# Altium integrated library airu-board.IntLib: 156 symbols (part 1 of 3)
Pins are listed as number, name and electrical type; pins without a type are passive.

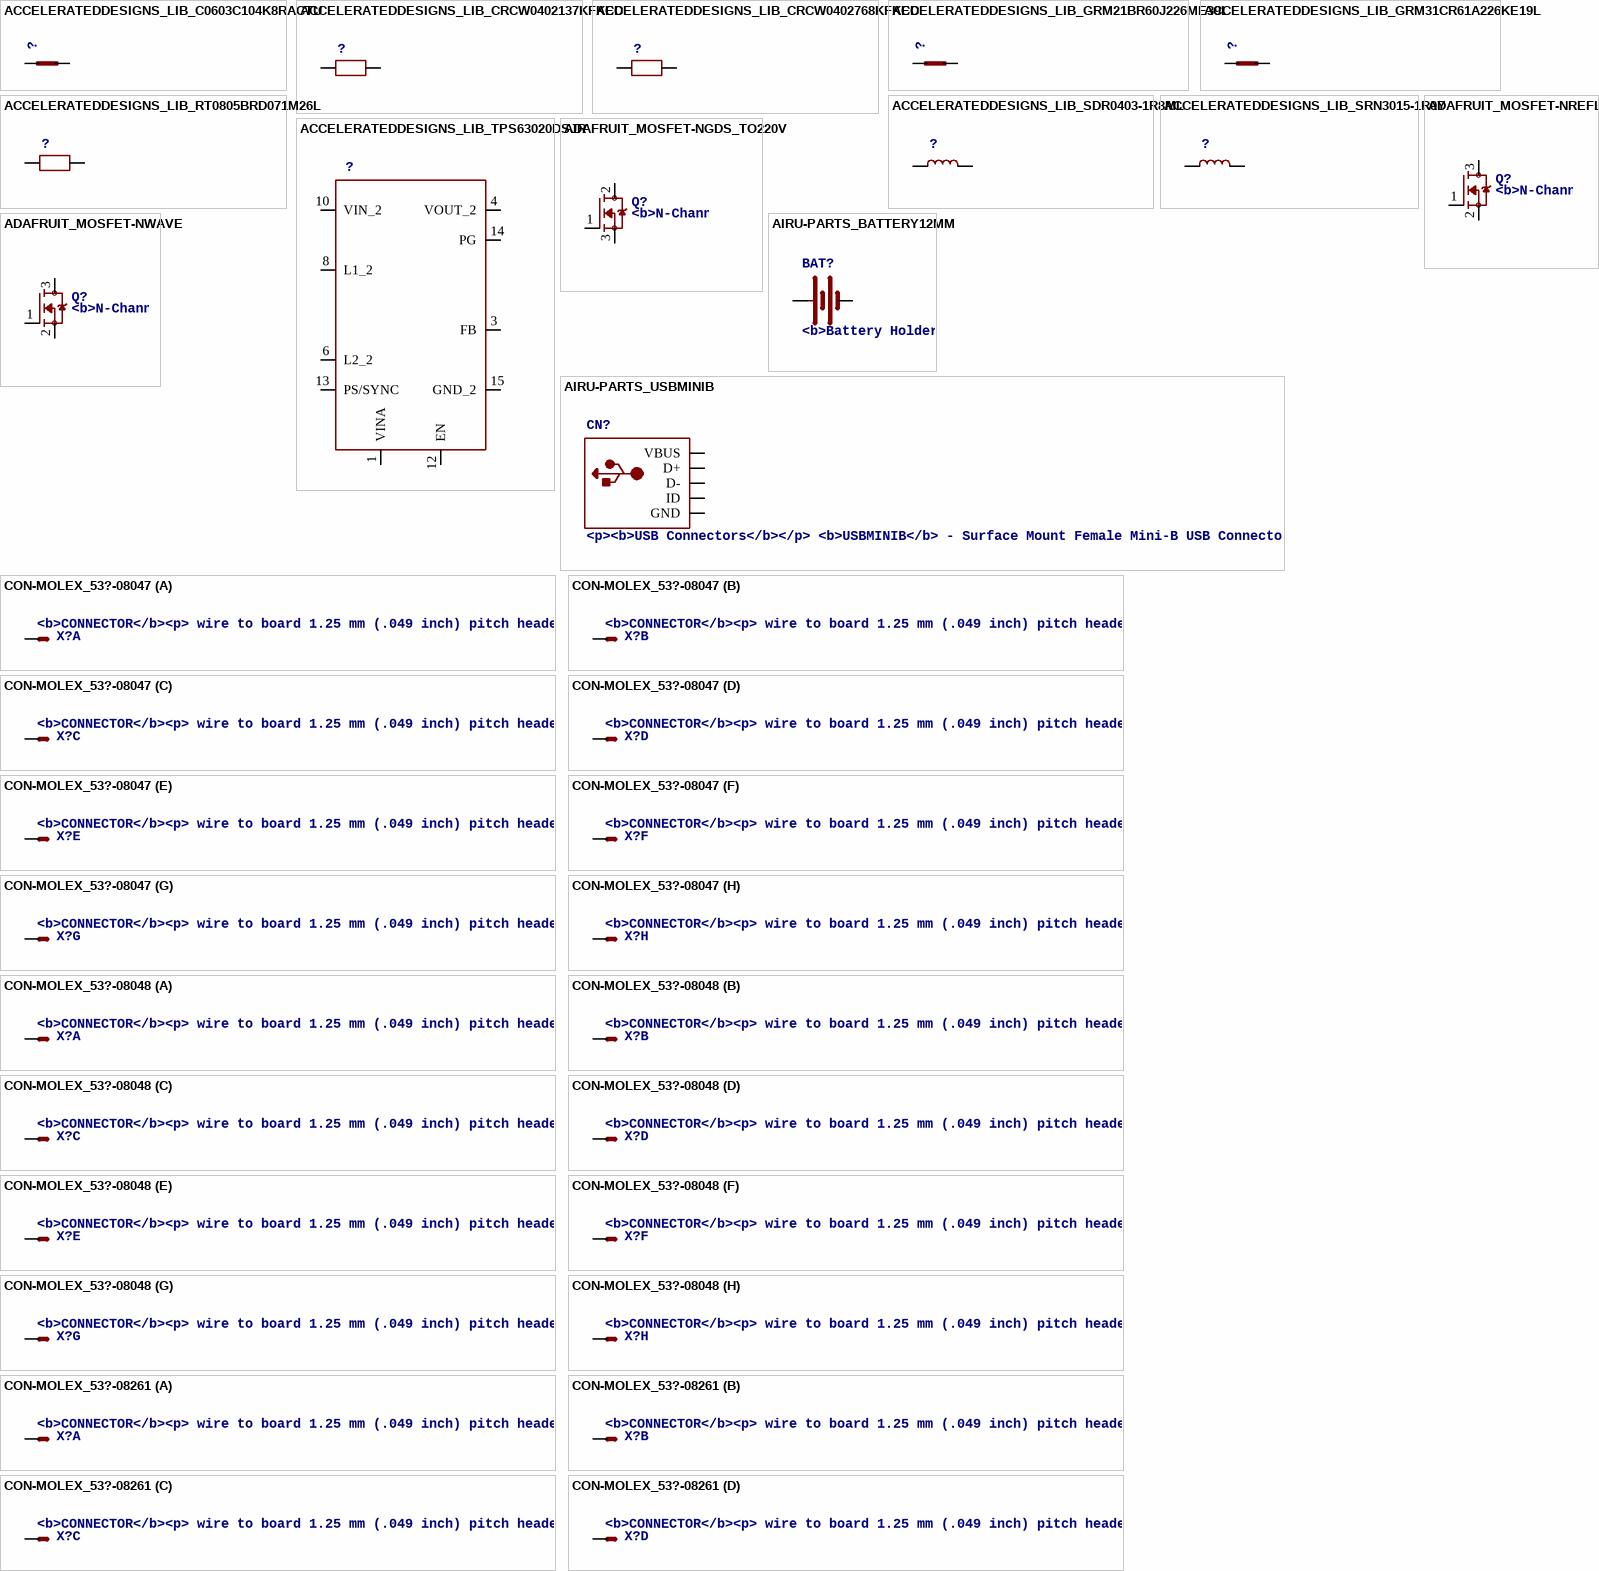
[diagram p0: symbols ACCELERATEDDESIGNS_LIB_C0603C104K8RACTU to CON-MOLEX_53?-08261]

## ACCELERATEDDESIGNS_LIB_C0603C104K8RACTU
designator ?
MANUFACTURER_NAME: Kemet; MANUFACTURER_PART_NUMBER: C0603C104K8RACTU; CAP: 1.0E-7; ESR: 0.0; VDC: 10.0; IRMS: 0.0; VENDOR: Kemet
footprint ACCELERATEDDESIGNS_LIB_0603
pins: 1, 2

## ACCELERATEDDESIGNS_LIB_CRCW0402137KFKED
designator ?
MANUFACTURER_NAME: Vishay-Dale; MANUFACTURER_PART_NUMBER: CRCW0402137KFKED; POWER: 0.063; RESISTANCE: 137000.0; TOLERANCE: 1.0; VENDOR: Vishay-Dale
footprint ACCELERATEDDESIGNS_LIB_0402
pins: P1 1, P2 2

## ACCELERATEDDESIGNS_LIB_CRCW0402768KFKED
designator ?
MANUFACTURER_NAME: Vishay-Dale; MANUFACTURER_PART_NUMBER: CRCW0402768KFKED; POWER: 0.063; RESISTANCE: 768000.0; TOLERANCE: 1.0; VENDOR: Vishay-Dale
footprint ACCELERATEDDESIGNS_LIB_0402
pins: P1 1, P2 2

## ACCELERATEDDESIGNS_LIB_GRM21BR60J226ME39L
designator ?
MANUFACTURER_NAME: MuRata; MANUFACTURER_PART_NUMBER: GRM21BR60J226ME39L; CAP: 2.2E-5; ESR: 0.0; VDC: 6.3; IRMS: 0.0; VENDOR: MuRata
footprint ACCELERATEDDESIGNS_LIB_0805
pins: 1, 2

## ACCELERATEDDESIGNS_LIB_GRM31CR61A226KE19L
designator ?
MANUFACTURER_NAME: MuRata; MANUFACTURER_PART_NUMBER: GRM31CR61A226KE19L; CAP: 2.2E-5; ESR: 0.0; VDC: 10.0; IRMS: 0.0; VENDOR: MuRata
footprint ACCELERATEDDESIGNS_LIB_1206_190
pins: 1, 2

## ACCELERATEDDESIGNS_LIB_RT0805BRD071M26L
designator ?
MANUFACTURER_NAME: Yageo America; MANUFACTURER_PART_NUMBER: RT0805BRD071M26L; POWER: 0.125; RESISTANCE: 1260000.0; TOLERANCE: 0.1; VENDOR: Yageo America
footprint ACCELERATEDDESIGNS_LIB_0805
pins: 1, 2

## ACCELERATEDDESIGNS_LIB_SDR0403-1R8ML
designator ?
MANUFACTURER_NAME: Bourns; MANUFACTURER_PART_NUMBER: SDR0403-1R8ML; DCR: 0.042; IDC: 2.91; L: 1.8E-6; VENDOR: Bourns
footprint ACCELERATEDDESIGNS_LIB_SDR0403
pins: 1, 2

## ACCELERATEDDESIGNS_LIB_SRN3015-1R0Y
designator ?
MANUFACTURER_NAME: Bourns; MANUFACTURER_PART_NUMBER: SRN3015-1R0Y; DCR: 0.048; IDC: 2.35; L: 1.0E-6; DATASHEETURL: http://www.bourns.com/data/global/pdfs/SRN3015.pdf; VENDOR: Bourns
footprint ACCELERATEDDESIGNS_LIB_SRN3015
pins: 1, 2

## ACCELERATEDDESIGNS_LIB_TPS63020DSJR
designator ?
MANUFACTURER_NAME: Texas Instruments; MANUFACTURER_PART_NUMBER: TPS63020DSJR; FREQUENCY: 2400000.0; IMAX: 3.0; MKTG_PACKAGE: TPS63020; DATASHEETURL: http://www.ti.com/lit/ds/symlink/tps63020.pdf; NSID: TPS63020DSJR; PACKAGE: TPS63020; VENDOR: Texas Instruments
footprint ACCELERATEDDESIGNS_LIB_R-PVSON-N14
pins: 1 VINA, 3 FB, 4 VOUT_2, 6 L2_2, 8 L1_2, 10 VIN_2, 12 EN, 13 PS/SYNC, 14 PG, 15 GND_2

## ADAFRUIT_MOSFET-NGDS_TO220V
designator Q?, comment <b>N-Channel Mosfet</b> / <ul> / <li>2N7002E - 60V 260mA SOT23 [Digikey: 2N7002ET1GOSTR-ND] - <b>REEL</b></li> / <li>BSH103 - 30V 850mA SOT23 [Digikey: 568-5013-1-ND]</li> / </ul>
footprint ADAFRUIT_TO220V
pins: 1 G, 2 D, 3 S

## ADAFRUIT_MOSFET-NREFLOW
designator Q?, comment <b>N-Channel Mosfet</b> / <ul> / <li>2N7002E - 60V 260mA SOT23 [Digikey: 2N7002ET1GOSTR-ND] - <b>REEL</b></li> / <li>BSH103 - 30V 850mA SOT23 [Digikey: 568-5013-1-ND]</li> / </ul>
footprint ADAFRUIT_SOT23
pins: 1 G, 2 S, 3 D

## ADAFRUIT_MOSFET-NWAVE
designator Q?, comment <b>N-Channel Mosfet</b> / <ul> / <li>2N7002E - 60V 260mA SOT23 [Digikey: 2N7002ET1GOSTR-ND] - <b>REEL</b></li> / <li>BSH103 - 30V 850mA SOT23 [Digikey: 568-5013-1-ND]</li> / </ul>
footprint ADAFRUIT_SOT23-W
pins: 1 G, 2 S, 3 D

## AIRU-PARTS_BATTERY12MM
designator BAT?, comment <b>Battery Holders</b><br> / Various common sizes : AA, AAA, 18650 (PRT-12895), 20mm coin cell and 12mm coin cell.<br> / 20MM_4LEGS, BATT-10373
PROD_ID: BATT-08044
footprint AIRU-PARTS_BATTCON_12MM
pins: GND - (power), PWR@1 + (power)

## AIRU-PARTS_USBMINIB
designator CN?, comment <p><b>USB Connectors</b></p> / <b>USBMINIB</b> - Surface Mount Female Mini-B USB Connector 4UConnector: 06564</p> / <p>By microbuilder.eu</p> / Thru-hole RA Female Mini-B USB Connector 4UConnector: 18732</p> / <p>By ladyada.net</p>
footprint AIRU-PARTS_USB-MINIB
pins: D+, D-, GND (power), ID, VBUS (power)

## CON-MOLEX_53?-08047
designator X?, comment <b>CONNECTOR</b><p> / wire to board 1.25 mm (.049 inch) pitch header
MPN: 53047-0810; OC_FARNELL: 1012258; OC_NEWARK: 98K9826
footprint CON-MOLEX_53047-08
part A pins: 1 S
part B pins: 2 S
part C pins: 3 S
part D pins: 4 S
part E pins: 5 S
part F pins: 6 S
part G pins: 7 S
part H pins: 8 S

## CON-MOLEX_53?-08048
designator X?, comment <b>CONNECTOR</b><p> / wire to board 1.25 mm (.049 inch) pitch header
MPN: 53048-0810; MF: WALDOM/MOLEX; OC_FARNELL: 9733094; OC_NEWARK: 38C9913
footprint CON-MOLEX_53048-08
part A pins: 1 S
part B pins: 2 S
part C pins: 3 S
part D pins: 4 S
part E pins: 5 S
part F pins: 6 S
part G pins: 7 S
part H pins: 8 S

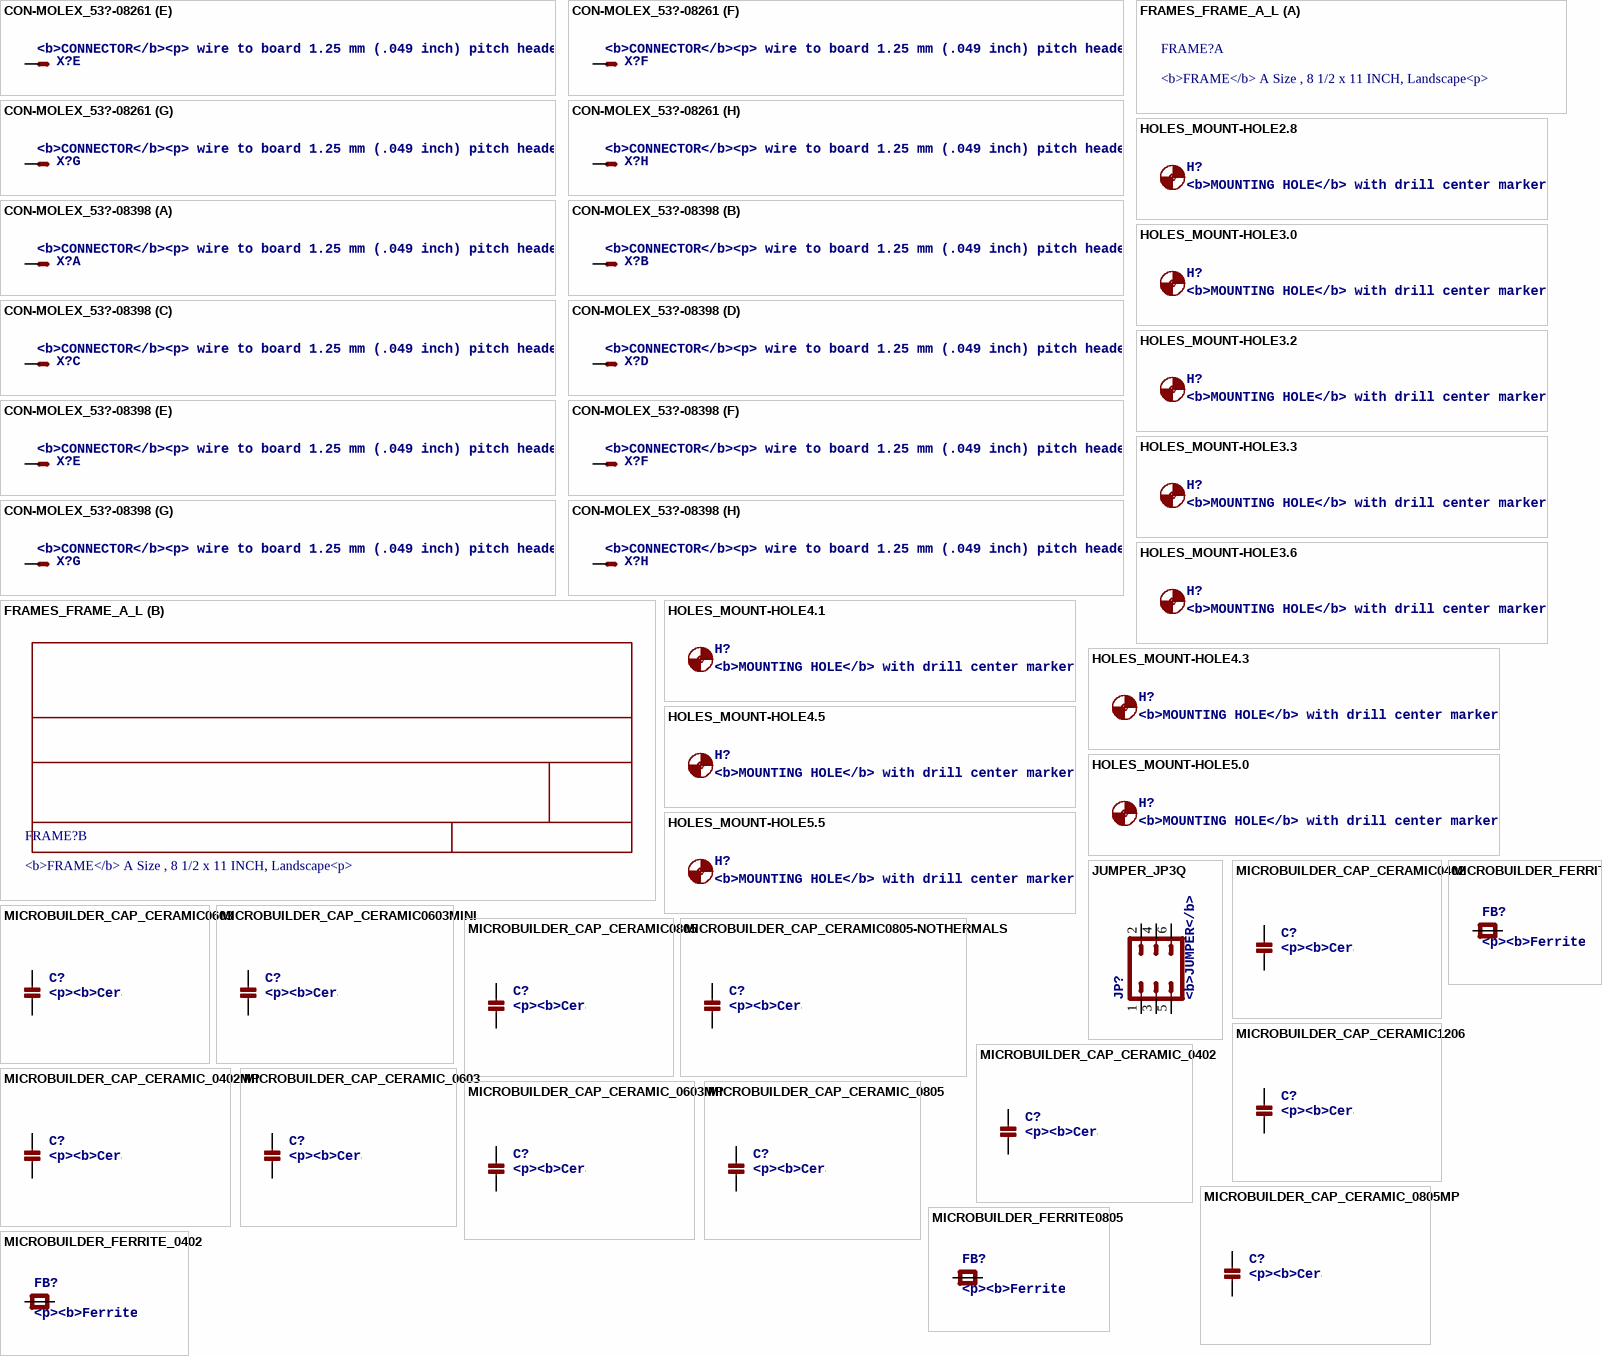
[diagram p1: symbols CON-MOLEX_53?-08261 to MICROBUILDER_FERRITE_0402]

## CON-MOLEX_53?-08261
designator X?, comment <b>CONNECTOR</b><p> / wire to board 1.25 mm (.049 inch) pitch header
OC_FARNELL: 1125376; OC_NEWARK: unknown
footprint CON-MOLEX_53261-08
part A pins: 1 S
part B pins: 2 S
part C pins: 3 S
part D pins: 4 S
part E pins: 5 S
part F pins: 6 S
part G pins: 7 S
part H pins: 8 S

## CON-MOLEX_53?-08398
designator X?, comment <b>CONNECTOR</b><p> / wire to board 1.25 mm (.049 inch) pitch header
OC_FARNELL: 1125371; OC_NEWARK: unknown
footprint CON-MOLEX_53398-08
part A pins: 1 S
part B pins: 2 S
part C pins: 3 S
part D pins: 4 S
part E pins: 5 S
part F pins: 6 S
part G pins: 7 S
part H pins: 8 S

## FRAMES_FRAME_A_L
designator FRAME?, comment <b>FRAME</b> A Size , 8 1/2 x 11 INCH, Landscape<p>

## HOLES_MOUNT-HOLE2.8
designator H?, comment <b>MOUNTING HOLE</b> with drill center marker
footprint HOLES_2,8

## HOLES_MOUNT-HOLE3.0
designator H?, comment <b>MOUNTING HOLE</b> with drill center marker
footprint HOLES_3,0

## HOLES_MOUNT-HOLE3.2
designator H?, comment <b>MOUNTING HOLE</b> with drill center marker
footprint HOLES_3,2

## HOLES_MOUNT-HOLE3.3
designator H?, comment <b>MOUNTING HOLE</b> with drill center marker
footprint HOLES_3,3

## HOLES_MOUNT-HOLE3.6
designator H?, comment <b>MOUNTING HOLE</b> with drill center marker
footprint HOLES_3,6

## HOLES_MOUNT-HOLE4.1
designator H?, comment <b>MOUNTING HOLE</b> with drill center marker
footprint HOLES_4,1

## HOLES_MOUNT-HOLE4.3
designator H?, comment <b>MOUNTING HOLE</b> with drill center marker
footprint HOLES_4,3

## HOLES_MOUNT-HOLE4.5
designator H?, comment <b>MOUNTING HOLE</b> with drill center marker
footprint HOLES_4,5

## HOLES_MOUNT-HOLE5.0
designator H?, comment <b>MOUNTING HOLE</b> with drill center marker
footprint HOLES_5,0

## HOLES_MOUNT-HOLE5.5
designator H?, comment <b>MOUNTING HOLE</b> with drill center marker
footprint HOLES_5,5

## JUMPER_JP3Q
designator JP?, comment <b>JUMPER</b>
footprint JUMPER_JP3Q
pins: 1, 2, 3, 4, 5, 6

## MICROBUILDER_CAP_CERAMIC0402
designator C?, comment <p><b>Ceramic Capacitors</b></p> / <b>0402</b> - 0402 Surface Mount Capacitors / <ul> / <li>16pF 50V 5% [Digikey: 445-4899-2-ND]</li> / <li>18pF 50V 5% [Digikey: 490-1281-2-ND]</li> / <li>22pF 50V 5% [Digikey: 490-1283-2-ND]</li> / <li>68pF 50V 5% [Digikey: 490-1289-2-ND]</li> / <li>0.1uF 10V 10% [Digikey: 490-1318-2-ND]</li> / <li>1.0uF 6.3V 10% [Digikey: 490-1320-2-ND]</li> / </ul> / <b>0603</b> - 0603 Surface Mount Capacitors / <ul> / <li>16 pF 50V 5% [Digikey: 445-5051-2-ND]</li> / <li>22 pF 50V [Digikey: PCC220ACVTR-ND]</li> / <li>33 pF 50V 5% [Digikey: 490-1415-1-ND]</li> / <li>56pF 50V 5% [Digikey: 490-1421-1-ND]</li> / <li>220pF 50V 5% [Digikey: 445-1285-1-ND]</li> / <li>680 pF 50V </li> / <li>2200 pF 50V 5% C0G [Digikey: 445-1297-1-ND]</li> / <li>5600 pF 100V 5% X7R [Digikey: 478-3711-1-ND]</li> / <li>0.1 µF 25V 10% [Digikey: PCC2277TR-ND]</li> / <li>0.22 µF 16V 10% X7R [Digikey: 445-1318-1-ND]</li> / <li>1.0 µF 25V 10% [Digikey: 445-5146-2-ND]</li> / </ul> / <b>0603</b> - RF Specific / <ul> / <li>3pF 250V +/-0.1pF RF [Digikey: 712-1347-1-ND]</li> / <li>18 pF 250V 5%  [Digikey: 478-3505-1-ND or 712-1322-1-ND]</li> / <li>56 pF 250V 5% C0G RF [Digikey: 490-4867-1-ND]</li> / <li>68 pF 250V RF [Digikey: 490-4868-1-ND]</li> / </ul> / <b>0805</b> - 0805 Surface Mount Capacitors / <ul> / <li>220 pF 250V 2% <strong>RF</strong> Ceramic Capacitor [Digikey: 712-1398-1-ND]</li> / <li>1000 pF 50V 2% NP0 Ceramic Capacitor [Digikey: 478-3760-1-ND]</li> / <li>0.1 µF 25V 10% Ceramic Capacitor [Digikey: PCC1828TR-ND]</li> / <li>1.0 µF 16V 10% Ceramic Capacitor[Digikey: 490-1691-2-ND]</li> / <li>10.0 µF 10V 10% Ceramic Capacitor[Digikey: 709-1228-1-ND]</li> / <li>10.0 uF 16V 10% Ceramic Capacitor [Digikey: 478-5165-2-ND]</li> / <li>47 uF 6.3V 20% Ceramic Capacitor [Digikey: 587-1779-1-ND or 399-5506-1-ND]</li> / </ul> / </ul><b>1206</b> - 1206 Surface Mount Capacitors / <ul> / <li>47uF 10V 20% Ceramic Capacitor [Digikey: 490-5528-1-ND or 399-5508-1-ND or 445-6010-1-ND]</li> / <li>100uF 6.3V -20%, +80% Y5V Ceramic Capacitor (Digikey: 490-4512-1-ND, Mouser: 81-GRM31CF50J107ZE1L)</li> / </ul>
footprint MICROBUILDER_0402
pins: 1 P$1, 2 P$2

## MICROBUILDER_CAP_CERAMIC0603
designator C?, comment <p><b>Ceramic Capacitors</b></p> / <b>0402</b> - 0402 Surface Mount Capacitors / <ul> / <li>16pF 50V 5% [Digikey: 445-4899-2-ND]</li> / <li>18pF 50V 5% [Digikey: 490-1281-2-ND]</li> / <li>22pF 50V 5% [Digikey: 490-1283-2-ND]</li> / <li>68pF 50V 5% [Digikey: 490-1289-2-ND]</li> / <li>0.1uF 10V 10% [Digikey: 490-1318-2-ND]</li> / <li>1.0uF 6.3V 10% [Digikey: 490-1320-2-ND]</li> / </ul> / <b>0603</b> - 0603 Surface Mount Capacitors / <ul> / <li>16 pF 50V 5% [Digikey: 445-5051-2-ND]</li> / <li>22 pF 50V [Digikey: PCC220ACVTR-ND]</li> / <li>33 pF 50V 5% [Digikey: 490-1415-1-ND]</li> / <li>56pF 50V 5% [Digikey: 490-1421-1-ND]</li> / <li>220pF 50V 5% [Digikey: 445-1285-1-ND]</li> / <li>680 pF 50V </li> / <li>2200 pF 50V 5% C0G [Digikey: 445-1297-1-ND]</li> / <li>5600 pF 100V 5% X7R [Digikey: 478-3711-1-ND]</li> / <li>0.1 µF 25V 10% [Digikey: PCC2277TR-ND]</li> / <li>0.22 µF 16V 10% X7R [Digikey: 445-1318-1-ND]</li> / <li>1.0 µF 25V 10% [Digikey: 445-5146-2-ND]</li> / </ul> / <b>0603</b> - RF Specific / <ul> / <li>3pF 250V +/-0.1pF RF [Digikey: 712-1347-1-ND]</li> / <li>18 pF 250V 5%  [Digikey: 478-3505-1-ND or 712-1322-1-ND]</li> / <li>56 pF 250V 5% C0G RF [Digikey: 490-4867-1-ND]</li> / <li>68 pF 250V RF [Digikey: 490-4868-1-ND]</li> / </ul> / <b>0805</b> - 0805 Surface Mount Capacitors / <ul> / <li>220 pF 250V 2% <strong>RF</strong> Ceramic Capacitor [Digikey: 712-1398-1-ND]</li> / <li>1000 pF 50V 2% NP0 Ceramic Capacitor [Digikey: 478-3760-1-ND]</li> / <li>0.1 µF 25V 10% Ceramic Capacitor [Digikey: PCC1828TR-ND]</li> / <li>1.0 µF 16V 10% Ceramic Capacitor[Digikey: 490-1691-2-ND]</li> / <li>10.0 µF 10V 10% Ceramic Capacitor[Digikey: 709-1228-1-ND]</li> / <li>10.0 uF 16V 10% Ceramic Capacitor [Digikey: 478-5165-2-ND]</li> / <li>47 uF 6.3V 20% Ceramic Capacitor [Digikey: 587-1779-1-ND or 399-5506-1-ND]</li> / </ul> / </ul><b>1206</b> - 1206 Surface Mount Capacitors / <ul> / <li>47uF 10V 20% Ceramic Capacitor [Digikey: 490-5528-1-ND or 399-5508-1-ND or 445-6010-1-ND]</li> / <li>100uF 6.3V -20%, +80% Y5V Ceramic Capacitor (Digikey: 490-4512-1-ND, Mouser: 81-GRM31CF50J107ZE1L)</li> / </ul>
footprint MICROBUILDER_0603
pins: 1 P$1, 2 P$2

## MICROBUILDER_CAP_CERAMIC0603MINI
designator C?, comment <p><b>Ceramic Capacitors</b></p> / <b>0402</b> - 0402 Surface Mount Capacitors / <ul> / <li>16pF 50V 5% [Digikey: 445-4899-2-ND]</li> / <li>18pF 50V 5% [Digikey: 490-1281-2-ND]</li> / <li>22pF 50V 5% [Digikey: 490-1283-2-ND]</li> / <li>68pF 50V 5% [Digikey: 490-1289-2-ND]</li> / <li>0.1uF 10V 10% [Digikey: 490-1318-2-ND]</li> / <li>1.0uF 6.3V 10% [Digikey: 490-1320-2-ND]</li> / </ul> / <b>0603</b> - 0603 Surface Mount Capacitors / <ul> / <li>16 pF 50V 5% [Digikey: 445-5051-2-ND]</li> / <li>22 pF 50V [Digikey: PCC220ACVTR-ND]</li> / <li>33 pF 50V 5% [Digikey: 490-1415-1-ND]</li> / <li>56pF 50V 5% [Digikey: 490-1421-1-ND]</li> / <li>220pF 50V 5% [Digikey: 445-1285-1-ND]</li> / <li>680 pF 50V </li> / <li>2200 pF 50V 5% C0G [Digikey: 445-1297-1-ND]</li> / <li>5600 pF 100V 5% X7R [Digikey: 478-3711-1-ND]</li> / <li>0.1 µF 25V 10% [Digikey: PCC2277TR-ND]</li> / <li>0.22 µF 16V 10% X7R [Digikey: 445-1318-1-ND]</li> / <li>1.0 µF 25V 10% [Digikey: 445-5146-2-ND]</li> / </ul> / <b>0603</b> - RF Specific / <ul> / <li>3pF 250V +/-0.1pF RF [Digikey: 712-1347-1-ND]</li> / <li>18 pF 250V 5%  [Digikey: 478-3505-1-ND or 712-1322-1-ND]</li> / <li>56 pF 250V 5% C0G RF [Digikey: 490-4867-1-ND]</li> / <li>68 pF 250V RF [Digikey: 490-4868-1-ND]</li> / </ul> / <b>0805</b> - 0805 Surface Mount Capacitors / <ul> / <li>220 pF 250V 2% <strong>RF</strong> Ceramic Capacitor [Digikey: 712-1398-1-ND]</li> / <li>1000 pF 50V 2% NP0 Ceramic Capacitor [Digikey: 478-3760-1-ND]</li> / <li>0.1 µF 25V 10% Ceramic Capacitor [Digikey: PCC1828TR-ND]</li> / <li>1.0 µF 16V 10% Ceramic Capacitor[Digikey: 490-1691-2-ND]</li> / <li>10.0 µF 10V 10% Ceramic Capacitor[Digikey: 709-1228-1-ND]</li> / <li>10.0 uF 16V 10% Ceramic Capacitor [Digikey: 478-5165-2-ND]</li> / <li>47 uF 6.3V 20% Ceramic Capacitor [Digikey: 587-1779-1-ND or 399-5506-1-ND]</li> / </ul> / </ul><b>1206</b> - 1206 Surface Mount Capacitors / <ul> / <li>47uF 10V 20% Ceramic Capacitor [Digikey: 490-5528-1-ND or 399-5508-1-ND or 445-6010-1-ND]</li> / <li>100uF 6.3V -20%, +80% Y5V Ceramic Capacitor (Digikey: 490-4512-1-ND, Mouser: 81-GRM31CF50J107ZE1L)</li> / </ul>
footprint MICROBUILDER_0603-MINI
pins: 1 P$1, 2 P$2

## MICROBUILDER_CAP_CERAMIC0805
designator C?, comment <p><b>Ceramic Capacitors</b></p> / <b>0402</b> - 0402 Surface Mount Capacitors / <ul> / <li>16pF 50V 5% [Digikey: 445-4899-2-ND]</li> / <li>18pF 50V 5% [Digikey: 490-1281-2-ND]</li> / <li>22pF 50V 5% [Digikey: 490-1283-2-ND]</li> / <li>68pF 50V 5% [Digikey: 490-1289-2-ND]</li> / <li>0.1uF 10V 10% [Digikey: 490-1318-2-ND]</li> / <li>1.0uF 6.3V 10% [Digikey: 490-1320-2-ND]</li> / </ul> / <b>0603</b> - 0603 Surface Mount Capacitors / <ul> / <li>16 pF 50V 5% [Digikey: 445-5051-2-ND]</li> / <li>22 pF 50V [Digikey: PCC220ACVTR-ND]</li> / <li>33 pF 50V 5% [Digikey: 490-1415-1-ND]</li> / <li>56pF 50V 5% [Digikey: 490-1421-1-ND]</li> / <li>220pF 50V 5% [Digikey: 445-1285-1-ND]</li> / <li>680 pF 50V </li> / <li>2200 pF 50V 5% C0G [Digikey: 445-1297-1-ND]</li> / <li>5600 pF 100V 5% X7R [Digikey: 478-3711-1-ND]</li> / <li>0.1 µF 25V 10% [Digikey: PCC2277TR-ND]</li> / <li>0.22 µF 16V 10% X7R [Digikey: 445-1318-1-ND]</li> / <li>1.0 µF 25V 10% [Digikey: 445-5146-2-ND]</li> / </ul> / <b>0603</b> - RF Specific / <ul> / <li>3pF 250V +/-0.1pF RF [Digikey: 712-1347-1-ND]</li> / <li>18 pF 250V 5%  [Digikey: 478-3505-1-ND or 712-1322-1-ND]</li> / <li>56 pF 250V 5% C0G RF [Digikey: 490-4867-1-ND]</li> / <li>68 pF 250V RF [Digikey: 490-4868-1-ND]</li> / </ul> / <b>0805</b> - 0805 Surface Mount Capacitors / <ul> / <li>220 pF 250V 2% <strong>RF</strong> Ceramic Capacitor [Digikey: 712-1398-1-ND]</li> / <li>1000 pF 50V 2% NP0 Ceramic Capacitor [Digikey: 478-3760-1-ND]</li> / <li>0.1 µF 25V 10% Ceramic Capacitor [Digikey: PCC1828TR-ND]</li> / <li>1.0 µF 16V 10% Ceramic Capacitor[Digikey: 490-1691-2-ND]</li> / <li>10.0 µF 10V 10% Ceramic Capacitor[Digikey: 709-1228-1-ND]</li> / <li>10.0 uF 16V 10% Ceramic Capacitor [Digikey: 478-5165-2-ND]</li> / <li>47 uF 6.3V 20% Ceramic Capacitor [Digikey: 587-1779-1-ND or 399-5506-1-ND]</li> / </ul> / </ul><b>1206</b> - 1206 Surface Mount Capacitors / <ul> / <li>47uF 10V 20% Ceramic Capacitor [Digikey: 490-5528-1-ND or 399-5508-1-ND or 445-6010-1-ND]</li> / <li>100uF 6.3V -20%, +80% Y5V Ceramic Capacitor (Digikey: 490-4512-1-ND, Mouser: 81-GRM31CF50J107ZE1L)</li> / </ul>
footprint MICROBUILDER_0805
pins: 1 P$1, 2 P$2

## MICROBUILDER_CAP_CERAMIC0805-NOTHERMALS
designator C?, comment <p><b>Ceramic Capacitors</b></p> / <b>0402</b> - 0402 Surface Mount Capacitors / <ul> / <li>16pF 50V 5% [Digikey: 445-4899-2-ND]</li> / <li>18pF 50V 5% [Digikey: 490-1281-2-ND]</li> / <li>22pF 50V 5% [Digikey: 490-1283-2-ND]</li> / <li>68pF 50V 5% [Digikey: 490-1289-2-ND]</li> / <li>0.1uF 10V 10% [Digikey: 490-1318-2-ND]</li> / <li>1.0uF 6.3V 10% [Digikey: 490-1320-2-ND]</li> / </ul> / <b>0603</b> - 0603 Surface Mount Capacitors / <ul> / <li>16 pF 50V 5% [Digikey: 445-5051-2-ND]</li> / <li>22 pF 50V [Digikey: PCC220ACVTR-ND]</li> / <li>33 pF 50V 5% [Digikey: 490-1415-1-ND]</li> / <li>56pF 50V 5% [Digikey: 490-1421-1-ND]</li> / <li>220pF 50V 5% [Digikey: 445-1285-1-ND]</li> / <li>680 pF 50V </li> / <li>2200 pF 50V 5% C0G [Digikey: 445-1297-1-ND]</li> / <li>5600 pF 100V 5% X7R [Digikey: 478-3711-1-ND]</li> / <li>0.1 µF 25V 10% [Digikey: PCC2277TR-ND]</li> / <li>0.22 µF 16V 10% X7R [Digikey: 445-1318-1-ND]</li> / <li>1.0 µF 25V 10% [Digikey: 445-5146-2-ND]</li> / </ul> / <b>0603</b> - RF Specific / <ul> / <li>3pF 250V +/-0.1pF RF [Digikey: 712-1347-1-ND]</li> / <li>18 pF 250V 5%  [Digikey: 478-3505-1-ND or 712-1322-1-ND]</li> / <li>56 pF 250V 5% C0G RF [Digikey: 490-4867-1-ND]</li> / <li>68 pF 250V RF [Digikey: 490-4868-1-ND]</li> / </ul> / <b>0805</b> - 0805 Surface Mount Capacitors / <ul> / <li>220 pF 250V 2% <strong>RF</strong> Ceramic Capacitor [Digikey: 712-1398-1-ND]</li> / <li>1000 pF 50V 2% NP0 Ceramic Capacitor [Digikey: 478-3760-1-ND]</li> / <li>0.1 µF 25V 10% Ceramic Capacitor [Digikey: PCC1828TR-ND]</li> / <li>1.0 µF 16V 10% Ceramic Capacitor[Digikey: 490-1691-2-ND]</li> / <li>10.0 µF 10V 10% Ceramic Capacitor[Digikey: 709-1228-1-ND]</li> / <li>10.0 uF 16V 10% Ceramic Capacitor [Digikey: 478-5165-2-ND]</li> / <li>47 uF 6.3V 20% Ceramic Capacitor [Digikey: 587-1779-1-ND or 399-5506-1-ND]</li> / </ul> / </ul><b>1206</b> - 1206 Surface Mount Capacitors / <ul> / <li>47uF 10V 20% Ceramic Capacitor [Digikey: 490-5528-1-ND or 399-5508-1-ND or 445-6010-1-ND]</li> / <li>100uF 6.3V -20%, +80% Y5V Ceramic Capacitor (Digikey: 490-4512-1-ND, Mouser: 81-GRM31CF50J107ZE1L)</li> / </ul>
footprint MICROBUILDER_0805_NOTHERMALS
pins: 1 P$1, 2 P$2

## MICROBUILDER_CAP_CERAMIC1206
designator C?, comment <p><b>Ceramic Capacitors</b></p> / <b>0402</b> - 0402 Surface Mount Capacitors / <ul> / <li>16pF 50V 5% [Digikey: 445-4899-2-ND]</li> / <li>18pF 50V 5% [Digikey: 490-1281-2-ND]</li> / <li>22pF 50V 5% [Digikey: 490-1283-2-ND]</li> / <li>68pF 50V 5% [Digikey: 490-1289-2-ND]</li> / <li>0.1uF 10V 10% [Digikey: 490-1318-2-ND]</li> / <li>1.0uF 6.3V 10% [Digikey: 490-1320-2-ND]</li> / </ul> / <b>0603</b> - 0603 Surface Mount Capacitors / <ul> / <li>16 pF 50V 5% [Digikey: 445-5051-2-ND]</li> / <li>22 pF 50V [Digikey: PCC220ACVTR-ND]</li> / <li>33 pF 50V 5% [Digikey: 490-1415-1-ND]</li> / <li>56pF 50V 5% [Digikey: 490-1421-1-ND]</li> / <li>220pF 50V 5% [Digikey: 445-1285-1-ND]</li> / <li>680 pF 50V </li> / <li>2200 pF 50V 5% C0G [Digikey: 445-1297-1-ND]</li> / <li>5600 pF 100V 5% X7R [Digikey: 478-3711-1-ND]</li> / <li>0.1 µF 25V 10% [Digikey: PCC2277TR-ND]</li> / <li>0.22 µF 16V 10% X7R [Digikey: 445-1318-1-ND]</li> / <li>1.0 µF 25V 10% [Digikey: 445-5146-2-ND]</li> / </ul> / <b>0603</b> - RF Specific / <ul> / <li>3pF 250V +/-0.1pF RF [Digikey: 712-1347-1-ND]</li> / <li>18 pF 250V 5%  [Digikey: 478-3505-1-ND or 712-1322-1-ND]</li> / <li>56 pF 250V 5% C0G RF [Digikey: 490-4867-1-ND]</li> / <li>68 pF 250V RF [Digikey: 490-4868-1-ND]</li> / </ul> / <b>0805</b> - 0805 Surface Mount Capacitors / <ul> / <li>220 pF 250V 2% <strong>RF</strong> Ceramic Capacitor [Digikey: 712-1398-1-ND]</li> / <li>1000 pF 50V 2% NP0 Ceramic Capacitor [Digikey: 478-3760-1-ND]</li> / <li>0.1 µF 25V 10% Ceramic Capacitor [Digikey: PCC1828TR-ND]</li> / <li>1.0 µF 16V 10% Ceramic Capacitor[Digikey: 490-1691-2-ND]</li> / <li>10.0 µF 10V 10% Ceramic Capacitor[Digikey: 709-1228-1-ND]</li> / <li>10.0 uF 16V 10% Ceramic Capacitor [Digikey: 478-5165-2-ND]</li> / <li>47 uF 6.3V 20% Ceramic Capacitor [Digikey: 587-1779-1-ND or 399-5506-1-ND]</li> / </ul> / </ul><b>1206</b> - 1206 Surface Mount Capacitors / <ul> / <li>47uF 10V 20% Ceramic Capacitor [Digikey: 490-5528-1-ND or 399-5508-1-ND or 445-6010-1-ND]</li> / <li>100uF 6.3V -20%, +80% Y5V Ceramic Capacitor (Digikey: 490-4512-1-ND, Mouser: 81-GRM31CF50J107ZE1L)</li> / </ul>
footprint MICROBUILDER_1206
pins: 1 P$1, 2 P$2

## MICROBUILDER_CAP_CERAMIC_0402
designator C?, comment <p><b>Ceramic Capacitors</b></p> / <b>0402</b> - 0402 Surface Mount Capacitors / <ul> / <li>16pF 50V 5% [Digikey: 445-4899-2-ND]</li> / <li>18pF 50V 5% [Digikey: 490-1281-2-ND]</li> / <li>22pF 50V 5% [Digikey: 490-1283-2-ND]</li> / <li>68pF 50V 5% [Digikey: 490-1289-2-ND]</li> / <li>0.1uF 10V 10% [Digikey: 490-1318-2-ND]</li> / <li>1.0uF 6.3V 10% [Digikey: 490-1320-2-ND]</li> / </ul> / <b>0603</b> - 0603 Surface Mount Capacitors / <ul> / <li>16 pF 50V 5% [Digikey: 445-5051-2-ND]</li> / <li>22 pF 50V [Digikey: PCC220ACVTR-ND]</li> / <li>33 pF 50V 5% [Digikey: 490-1415-1-ND]</li> / <li>56pF 50V 5% [Digikey: 490-1421-1-ND]</li> / <li>220pF 50V 5% [Digikey: 445-1285-1-ND]</li> / <li>680 pF 50V </li> / <li>2200 pF 50V 5% C0G [Digikey: 445-1297-1-ND]</li> / <li>5600 pF 100V 5% X7R [Digikey: 478-3711-1-ND]</li> / <li>0.1 µF 25V 10% [Digikey: PCC2277TR-ND]</li> / <li>0.22 µF 16V 10% X7R [Digikey: 445-1318-1-ND]</li> / <li>1.0 µF 25V 10% [Digikey: 445-5146-2-ND]</li> / </ul> / <b>0603</b> - RF Specific / <ul> / <li>3pF 250V +/-0.1pF RF [Digikey: 712-1347-1-ND]</li> / <li>18 pF 250V 5%  [Digikey: 478-3505-1-ND or 712-1322-1-ND]</li> / <li>56 pF 250V 5% C0G RF [Digikey: 490-4867-1-ND]</li> / <li>68 pF 250V RF [Digikey: 490-4868-1-ND]</li> / </ul> / <b>0805</b> - 0805 Surface Mount Capacitors / <ul> / <li>220 pF 250V 2% <strong>RF</strong> Ceramic Capacitor [Digikey: 712-1398-1-ND]</li> / <li>1000 pF 50V 2% NP0 Ceramic Capacitor [Digikey: 478-3760-1-ND]</li> / <li>0.1 µF 25V 10% Ceramic Capacitor [Digikey: PCC1828TR-ND]</li> / <li>1.0 µF 16V 10% Ceramic Capacitor[Digikey: 490-1691-2-ND]</li> / <li>10.0 µF 10V 10% Ceramic Capacitor[Digikey: 709-1228-1-ND]</li> / <li>10.0 uF 16V 10% Ceramic Capacitor [Digikey: 478-5165-2-ND]</li> / <li>47 uF 6.3V 20% Ceramic Capacitor [Digikey: 587-1779-1-ND or 399-5506-1-ND]</li> / </ul> / </ul><b>1206</b> - 1206 Surface Mount Capacitors / <ul> / <li>47uF 10V 20% Ceramic Capacitor [Digikey: 490-5528-1-ND or 399-5508-1-ND or 445-6010-1-ND]</li> / <li>100uF 6.3V -20%, +80% Y5V Ceramic Capacitor (Digikey: 490-4512-1-ND, Mouser: 81-GRM31CF50J107ZE1L)</li> / </ul>
footprint MICROBUILDER__0402
pins: 1 P$1, 2 P$2

## MICROBUILDER_CAP_CERAMIC_0402MP
designator C?, comment <p><b>Ceramic Capacitors</b></p> / <b>0402</b> - 0402 Surface Mount Capacitors / <ul> / <li>16pF 50V 5% [Digikey: 445-4899-2-ND]</li> / <li>18pF 50V 5% [Digikey: 490-1281-2-ND]</li> / <li>22pF 50V 5% [Digikey: 490-1283-2-ND]</li> / <li>68pF 50V 5% [Digikey: 490-1289-2-ND]</li> / <li>0.1uF 10V 10% [Digikey: 490-1318-2-ND]</li> / <li>1.0uF 6.3V 10% [Digikey: 490-1320-2-ND]</li> / </ul> / <b>0603</b> - 0603 Surface Mount Capacitors / <ul> / <li>16 pF 50V 5% [Digikey: 445-5051-2-ND]</li> / <li>22 pF 50V [Digikey: PCC220ACVTR-ND]</li> / <li>33 pF 50V 5% [Digikey: 490-1415-1-ND]</li> / <li>56pF 50V 5% [Digikey: 490-1421-1-ND]</li> / <li>220pF 50V 5% [Digikey: 445-1285-1-ND]</li> / <li>680 pF 50V </li> / <li>2200 pF 50V 5% C0G [Digikey: 445-1297-1-ND]</li> / <li>5600 pF 100V 5% X7R [Digikey: 478-3711-1-ND]</li> / <li>0.1 µF 25V 10% [Digikey: PCC2277TR-ND]</li> / <li>0.22 µF 16V 10% X7R [Digikey: 445-1318-1-ND]</li> / <li>1.0 µF 25V 10% [Digikey: 445-5146-2-ND]</li> / </ul> / <b>0603</b> - RF Specific / <ul> / <li>3pF 250V +/-0.1pF RF [Digikey: 712-1347-1-ND]</li> / <li>18 pF 250V 5%  [Digikey: 478-3505-1-ND or 712-1322-1-ND]</li> / <li>56 pF 250V 5% C0G RF [Digikey: 490-4867-1-ND]</li> / <li>68 pF 250V RF [Digikey: 490-4868-1-ND]</li> / </ul> / <b>0805</b> - 0805 Surface Mount Capacitors / <ul> / <li>220 pF 250V 2% <strong>RF</strong> Ceramic Capacitor [Digikey: 712-1398-1-ND]</li> / <li>1000 pF 50V 2% NP0 Ceramic Capacitor [Digikey: 478-3760-1-ND]</li> / <li>0.1 µF 25V 10% Ceramic Capacitor [Digikey: PCC1828TR-ND]</li> / <li>1.0 µF 16V 10% Ceramic Capacitor[Digikey: 490-1691-2-ND]</li> / <li>10.0 µF 10V 10% Ceramic Capacitor[Digikey: 709-1228-1-ND]</li> / <li>10.0 uF 16V 10% Ceramic Capacitor [Digikey: 478-5165-2-ND]</li> / <li>47 uF 6.3V 20% Ceramic Capacitor [Digikey: 587-1779-1-ND or 399-5506-1-ND]</li> / </ul> / </ul><b>1206</b> - 1206 Surface Mount Capacitors / <ul> / <li>47uF 10V 20% Ceramic Capacitor [Digikey: 490-5528-1-ND or 399-5508-1-ND or 445-6010-1-ND]</li> / <li>100uF 6.3V -20%, +80% Y5V Ceramic Capacitor (Digikey: 490-4512-1-ND, Mouser: 81-GRM31CF50J107ZE1L)</li> / </ul>
footprint MICROBUILDER__0402MP
pins: 1 P$1, 2 P$2

## MICROBUILDER_CAP_CERAMIC_0603
designator C?, comment <p><b>Ceramic Capacitors</b></p> / <b>0402</b> - 0402 Surface Mount Capacitors / <ul> / <li>16pF 50V 5% [Digikey: 445-4899-2-ND]</li> / <li>18pF 50V 5% [Digikey: 490-1281-2-ND]</li> / <li>22pF 50V 5% [Digikey: 490-1283-2-ND]</li> / <li>68pF 50V 5% [Digikey: 490-1289-2-ND]</li> / <li>0.1uF 10V 10% [Digikey: 490-1318-2-ND]</li> / <li>1.0uF 6.3V 10% [Digikey: 490-1320-2-ND]</li> / </ul> / <b>0603</b> - 0603 Surface Mount Capacitors / <ul> / <li>16 pF 50V 5% [Digikey: 445-5051-2-ND]</li> / <li>22 pF 50V [Digikey: PCC220ACVTR-ND]</li> / <li>33 pF 50V 5% [Digikey: 490-1415-1-ND]</li> / <li>56pF 50V 5% [Digikey: 490-1421-1-ND]</li> / <li>220pF 50V 5% [Digikey: 445-1285-1-ND]</li> / <li>680 pF 50V </li> / <li>2200 pF 50V 5% C0G [Digikey: 445-1297-1-ND]</li> / <li>5600 pF 100V 5% X7R [Digikey: 478-3711-1-ND]</li> / <li>0.1 µF 25V 10% [Digikey: PCC2277TR-ND]</li> / <li>0.22 µF 16V 10% X7R [Digikey: 445-1318-1-ND]</li> / <li>1.0 µF 25V 10% [Digikey: 445-5146-2-ND]</li> / </ul> / <b>0603</b> - RF Specific / <ul> / <li>3pF 250V +/-0.1pF RF [Digikey: 712-1347-1-ND]</li> / <li>18 pF 250V 5%  [Digikey: 478-3505-1-ND or 712-1322-1-ND]</li> / <li>56 pF 250V 5% C0G RF [Digikey: 490-4867-1-ND]</li> / <li>68 pF 250V RF [Digikey: 490-4868-1-ND]</li> / </ul> / <b>0805</b> - 0805 Surface Mount Capacitors / <ul> / <li>220 pF 250V 2% <strong>RF</strong> Ceramic Capacitor [Digikey: 712-1398-1-ND]</li> / <li>1000 pF 50V 2% NP0 Ceramic Capacitor [Digikey: 478-3760-1-ND]</li> / <li>0.1 µF 25V 10% Ceramic Capacitor [Digikey: PCC1828TR-ND]</li> / <li>1.0 µF 16V 10% Ceramic Capacitor[Digikey: 490-1691-2-ND]</li> / <li>10.0 µF 10V 10% Ceramic Capacitor[Digikey: 709-1228-1-ND]</li> / <li>10.0 uF 16V 10% Ceramic Capacitor [Digikey: 478-5165-2-ND]</li> / <li>47 uF 6.3V 20% Ceramic Capacitor [Digikey: 587-1779-1-ND or 399-5506-1-ND]</li> / </ul> / </ul><b>1206</b> - 1206 Surface Mount Capacitors / <ul> / <li>47uF 10V 20% Ceramic Capacitor [Digikey: 490-5528-1-ND or 399-5508-1-ND or 445-6010-1-ND]</li> / <li>100uF 6.3V -20%, +80% Y5V Ceramic Capacitor (Digikey: 490-4512-1-ND, Mouser: 81-GRM31CF50J107ZE1L)</li> / </ul>
footprint MICROBUILDER__0603
pins: 1 P$1, 2 P$2

## MICROBUILDER_CAP_CERAMIC_0603MP
designator C?, comment <p><b>Ceramic Capacitors</b></p> / <b>0402</b> - 0402 Surface Mount Capacitors / <ul> / <li>16pF 50V 5% [Digikey: 445-4899-2-ND]</li> / <li>18pF 50V 5% [Digikey: 490-1281-2-ND]</li> / <li>22pF 50V 5% [Digikey: 490-1283-2-ND]</li> / <li>68pF 50V 5% [Digikey: 490-1289-2-ND]</li> / <li>0.1uF 10V 10% [Digikey: 490-1318-2-ND]</li> / <li>1.0uF 6.3V 10% [Digikey: 490-1320-2-ND]</li> / </ul> / <b>0603</b> - 0603 Surface Mount Capacitors / <ul> / <li>16 pF 50V 5% [Digikey: 445-5051-2-ND]</li> / <li>22 pF 50V [Digikey: PCC220ACVTR-ND]</li> / <li>33 pF 50V 5% [Digikey: 490-1415-1-ND]</li> / <li>56pF 50V 5% [Digikey: 490-1421-1-ND]</li> / <li>220pF 50V 5% [Digikey: 445-1285-1-ND]</li> / <li>680 pF 50V </li> / <li>2200 pF 50V 5% C0G [Digikey: 445-1297-1-ND]</li> / <li>5600 pF 100V 5% X7R [Digikey: 478-3711-1-ND]</li> / <li>0.1 µF 25V 10% [Digikey: PCC2277TR-ND]</li> / <li>0.22 µF 16V 10% X7R [Digikey: 445-1318-1-ND]</li> / <li>1.0 µF 25V 10% [Digikey: 445-5146-2-ND]</li> / </ul> / <b>0603</b> - RF Specific / <ul> / <li>3pF 250V +/-0.1pF RF [Digikey: 712-1347-1-ND]</li> / <li>18 pF 250V 5%  [Digikey: 478-3505-1-ND or 712-1322-1-ND]</li> / <li>56 pF 250V 5% C0G RF [Digikey: 490-4867-1-ND]</li> / <li>68 pF 250V RF [Digikey: 490-4868-1-ND]</li> / </ul> / <b>0805</b> - 0805 Surface Mount Capacitors / <ul> / <li>220 pF 250V 2% <strong>RF</strong> Ceramic Capacitor [Digikey: 712-1398-1-ND]</li> / <li>1000 pF 50V 2% NP0 Ceramic Capacitor [Digikey: 478-3760-1-ND]</li> / <li>0.1 µF 25V 10% Ceramic Capacitor [Digikey: PCC1828TR-ND]</li> / <li>1.0 µF 16V 10% Ceramic Capacitor[Digikey: 490-1691-2-ND]</li> / <li>10.0 µF 10V 10% Ceramic Capacitor[Digikey: 709-1228-1-ND]</li> / <li>10.0 uF 16V 10% Ceramic Capacitor [Digikey: 478-5165-2-ND]</li> / <li>47 uF 6.3V 20% Ceramic Capacitor [Digikey: 587-1779-1-ND or 399-5506-1-ND]</li> / </ul> / </ul><b>1206</b> - 1206 Surface Mount Capacitors / <ul> / <li>47uF 10V 20% Ceramic Capacitor [Digikey: 490-5528-1-ND or 399-5508-1-ND or 445-6010-1-ND]</li> / <li>100uF 6.3V -20%, +80% Y5V Ceramic Capacitor (Digikey: 490-4512-1-ND, Mouser: 81-GRM31CF50J107ZE1L)</li> / </ul>
footprint MICROBUILDER__0603MP
pins: 1 P$1, 2 P$2

## MICROBUILDER_CAP_CERAMIC_0805
designator C?, comment <p><b>Ceramic Capacitors</b></p> / <b>0402</b> - 0402 Surface Mount Capacitors / <ul> / <li>16pF 50V 5% [Digikey: 445-4899-2-ND]</li> / <li>18pF 50V 5% [Digikey: 490-1281-2-ND]</li> / <li>22pF 50V 5% [Digikey: 490-1283-2-ND]</li> / <li>68pF 50V 5% [Digikey: 490-1289-2-ND]</li> / <li>0.1uF 10V 10% [Digikey: 490-1318-2-ND]</li> / <li>1.0uF 6.3V 10% [Digikey: 490-1320-2-ND]</li> / </ul> / <b>0603</b> - 0603 Surface Mount Capacitors / <ul> / <li>16 pF 50V 5% [Digikey: 445-5051-2-ND]</li> / <li>22 pF 50V [Digikey: PCC220ACVTR-ND]</li> / <li>33 pF 50V 5% [Digikey: 490-1415-1-ND]</li> / <li>56pF 50V 5% [Digikey: 490-1421-1-ND]</li> / <li>220pF 50V 5% [Digikey: 445-1285-1-ND]</li> / <li>680 pF 50V </li> / <li>2200 pF 50V 5% C0G [Digikey: 445-1297-1-ND]</li> / <li>5600 pF 100V 5% X7R [Digikey: 478-3711-1-ND]</li> / <li>0.1 µF 25V 10% [Digikey: PCC2277TR-ND]</li> / <li>0.22 µF 16V 10% X7R [Digikey: 445-1318-1-ND]</li> / <li>1.0 µF 25V 10% [Digikey: 445-5146-2-ND]</li> / </ul> / <b>0603</b> - RF Specific / <ul> / <li>3pF 250V +/-0.1pF RF [Digikey: 712-1347-1-ND]</li> / <li>18 pF 250V 5%  [Digikey: 478-3505-1-ND or 712-1322-1-ND]</li> / <li>56 pF 250V 5% C0G RF [Digikey: 490-4867-1-ND]</li> / <li>68 pF 250V RF [Digikey: 490-4868-1-ND]</li> / </ul> / <b>0805</b> - 0805 Surface Mount Capacitors / <ul> / <li>220 pF 250V 2% <strong>RF</strong> Ceramic Capacitor [Digikey: 712-1398-1-ND]</li> / <li>1000 pF 50V 2% NP0 Ceramic Capacitor [Digikey: 478-3760-1-ND]</li> / <li>0.1 µF 25V 10% Ceramic Capacitor [Digikey: PCC1828TR-ND]</li> / <li>1.0 µF 16V 10% Ceramic Capacitor[Digikey: 490-1691-2-ND]</li> / <li>10.0 µF 10V 10% Ceramic Capacitor[Digikey: 709-1228-1-ND]</li> / <li>10.0 uF 16V 10% Ceramic Capacitor [Digikey: 478-5165-2-ND]</li> / <li>47 uF 6.3V 20% Ceramic Capacitor [Digikey: 587-1779-1-ND or 399-5506-1-ND]</li> / </ul> / </ul><b>1206</b> - 1206 Surface Mount Capacitors / <ul> / <li>47uF 10V 20% Ceramic Capacitor [Digikey: 490-5528-1-ND or 399-5508-1-ND or 445-6010-1-ND]</li> / <li>100uF 6.3V -20%, +80% Y5V Ceramic Capacitor (Digikey: 490-4512-1-ND, Mouser: 81-GRM31CF50J107ZE1L)</li> / </ul>
footprint MICROBUILDER__0805
pins: 1 P$1, 2 P$2

## MICROBUILDER_CAP_CERAMIC_0805MP
designator C?, comment <p><b>Ceramic Capacitors</b></p> / <b>0402</b> - 0402 Surface Mount Capacitors / <ul> / <li>16pF 50V 5% [Digikey: 445-4899-2-ND]</li> / <li>18pF 50V 5% [Digikey: 490-1281-2-ND]</li> / <li>22pF 50V 5% [Digikey: 490-1283-2-ND]</li> / <li>68pF 50V 5% [Digikey: 490-1289-2-ND]</li> / <li>0.1uF 10V 10% [Digikey: 490-1318-2-ND]</li> / <li>1.0uF 6.3V 10% [Digikey: 490-1320-2-ND]</li> / </ul> / <b>0603</b> - 0603 Surface Mount Capacitors / <ul> / <li>16 pF 50V 5% [Digikey: 445-5051-2-ND]</li> / <li>22 pF 50V [Digikey: PCC220ACVTR-ND]</li> / <li>33 pF 50V 5% [Digikey: 490-1415-1-ND]</li> / <li>56pF 50V 5% [Digikey: 490-1421-1-ND]</li> / <li>220pF 50V 5% [Digikey: 445-1285-1-ND]</li> / <li>680 pF 50V </li> / <li>2200 pF 50V 5% C0G [Digikey: 445-1297-1-ND]</li> / <li>5600 pF 100V 5% X7R [Digikey: 478-3711-1-ND]</li> / <li>0.1 µF 25V 10% [Digikey: PCC2277TR-ND]</li> / <li>0.22 µF 16V 10% X7R [Digikey: 445-1318-1-ND]</li> / <li>1.0 µF 25V 10% [Digikey: 445-5146-2-ND]</li> / </ul> / <b>0603</b> - RF Specific / <ul> / <li>3pF 250V +/-0.1pF RF [Digikey: 712-1347-1-ND]</li> / <li>18 pF 250V 5%  [Digikey: 478-3505-1-ND or 712-1322-1-ND]</li> / <li>56 pF 250V 5% C0G RF [Digikey: 490-4867-1-ND]</li> / <li>68 pF 250V RF [Digikey: 490-4868-1-ND]</li> / </ul> / <b>0805</b> - 0805 Surface Mount Capacitors / <ul> / <li>220 pF 250V 2% <strong>RF</strong> Ceramic Capacitor [Digikey: 712-1398-1-ND]</li> / <li>1000 pF 50V 2% NP0 Ceramic Capacitor [Digikey: 478-3760-1-ND]</li> / <li>0.1 µF 25V 10% Ceramic Capacitor [Digikey: PCC1828TR-ND]</li> / <li>1.0 µF 16V 10% Ceramic Capacitor[Digikey: 490-1691-2-ND]</li> / <li>10.0 µF 10V 10% Ceramic Capacitor[Digikey: 709-1228-1-ND]</li> / <li>10.0 uF 16V 10% Ceramic Capacitor [Digikey: 478-5165-2-ND]</li> / <li>47 uF 6.3V 20% Ceramic Capacitor [Digikey: 587-1779-1-ND or 399-5506-1-ND]</li> / </ul> / </ul><b>1206</b> - 1206 Surface Mount Capacitors / <ul> / <li>47uF 10V 20% Ceramic Capacitor [Digikey: 490-5528-1-ND or 399-5508-1-ND or 445-6010-1-ND]</li> / <li>100uF 6.3V -20%, +80% Y5V Ceramic Capacitor (Digikey: 490-4512-1-ND, Mouser: 81-GRM31CF50J107ZE1L)</li> / </ul>
footprint MICROBUILDER__0805MP
pins: 1 P$1, 2 P$2

## MICROBUILDER_FERRITE
designator FB?, comment <p><b>Ferrite Bead</b></p> / <p>0603</p> / <ul> / <li>MMZ1608B121C - 120 Ohm @ 100MHz, 600mA, 0.15 Ohm DC Resistance - Digikey: 445-2164-1-ND</li> / <li>BK1608HW121-T - 120 Ohm, 600mA Ferrite Chip - Digikey: 587-1876-2-ND</li> / </ul> / <p>0805</p> / <ul> / <li>HZ0805B272R-10 - 2.7K Ohm @ 100MHz, 200mA, 0.8 Ohm DC Resistance - Digikey: 240-2504-1-ND (see also Murata BLM21BD272SN1L)</li> / <li>MMZ2012Y152B - 1.5K Ohm @ 100MHz, 500mA, 0.4 Ohm DC Resistance - Digikey: 445-1560-1-ND - Mainly for high frequency (80-400MHz)</li> / <li>MMZ2012R102A - 1K Ohm @ 100MHz, 500mA, 0.3 Ohm DC Resistance - Digikey: 445-1555-2-ND - More general purpose (10-200MHz)</li> / </ul>
footprint MICROBUILDER_0603
pins: 1 P$1, 2 P$2

## MICROBUILDER_FERRITE0805
designator FB?, comment <p><b>Ferrite Bead</b></p> / <p>0603</p> / <ul> / <li>MMZ1608B121C - 120 Ohm @ 100MHz, 600mA, 0.15 Ohm DC Resistance - Digikey: 445-2164-1-ND</li> / <li>BK1608HW121-T - 120 Ohm, 600mA Ferrite Chip - Digikey: 587-1876-2-ND</li> / </ul> / <p>0805</p> / <ul> / <li>HZ0805B272R-10 - 2.7K Ohm @ 100MHz, 200mA, 0.8 Ohm DC Resistance - Digikey: 240-2504-1-ND (see also Murata BLM21BD272SN1L)</li> / <li>MMZ2012Y152B - 1.5K Ohm @ 100MHz, 500mA, 0.4 Ohm DC Resistance - Digikey: 445-1560-1-ND - Mainly for high frequency (80-400MHz)</li> / <li>MMZ2012R102A - 1K Ohm @ 100MHz, 500mA, 0.3 Ohm DC Resistance - Digikey: 445-1555-2-ND - More general purpose (10-200MHz)</li> / </ul>
footprint MICROBUILDER_0805
pins: 1 P$1, 2 P$2

## MICROBUILDER_FERRITE_0402
designator FB?, comment <p><b>Ferrite Bead</b></p> / <p>0603</p> / <ul> / <li>MMZ1608B121C - 120 Ohm @ 100MHz, 600mA, 0.15 Ohm DC Resistance - Digikey: 445-2164-1-ND</li> / <li>BK1608HW121-T - 120 Ohm, 600mA Ferrite Chip - Digikey: 587-1876-2-ND</li> / </ul> / <p>0805</p> / <ul> / <li>HZ0805B272R-10 - 2.7K Ohm @ 100MHz, 200mA, 0.8 Ohm DC Resistance - Digikey: 240-2504-1-ND (see also Murata BLM21BD272SN1L)</li> / <li>MMZ2012Y152B - 1.5K Ohm @ 100MHz, 500mA, 0.4 Ohm DC Resistance - Digikey: 445-1560-1-ND - Mainly for high frequency (80-400MHz)</li> / <li>MMZ2012R102A - 1K Ohm @ 100MHz, 500mA, 0.3 Ohm DC Resistance - Digikey: 445-1555-2-ND - More general purpose (10-200MHz)</li> / </ul>
footprint MICROBUILDER__0402
pins: 1 P$1, 2 P$2

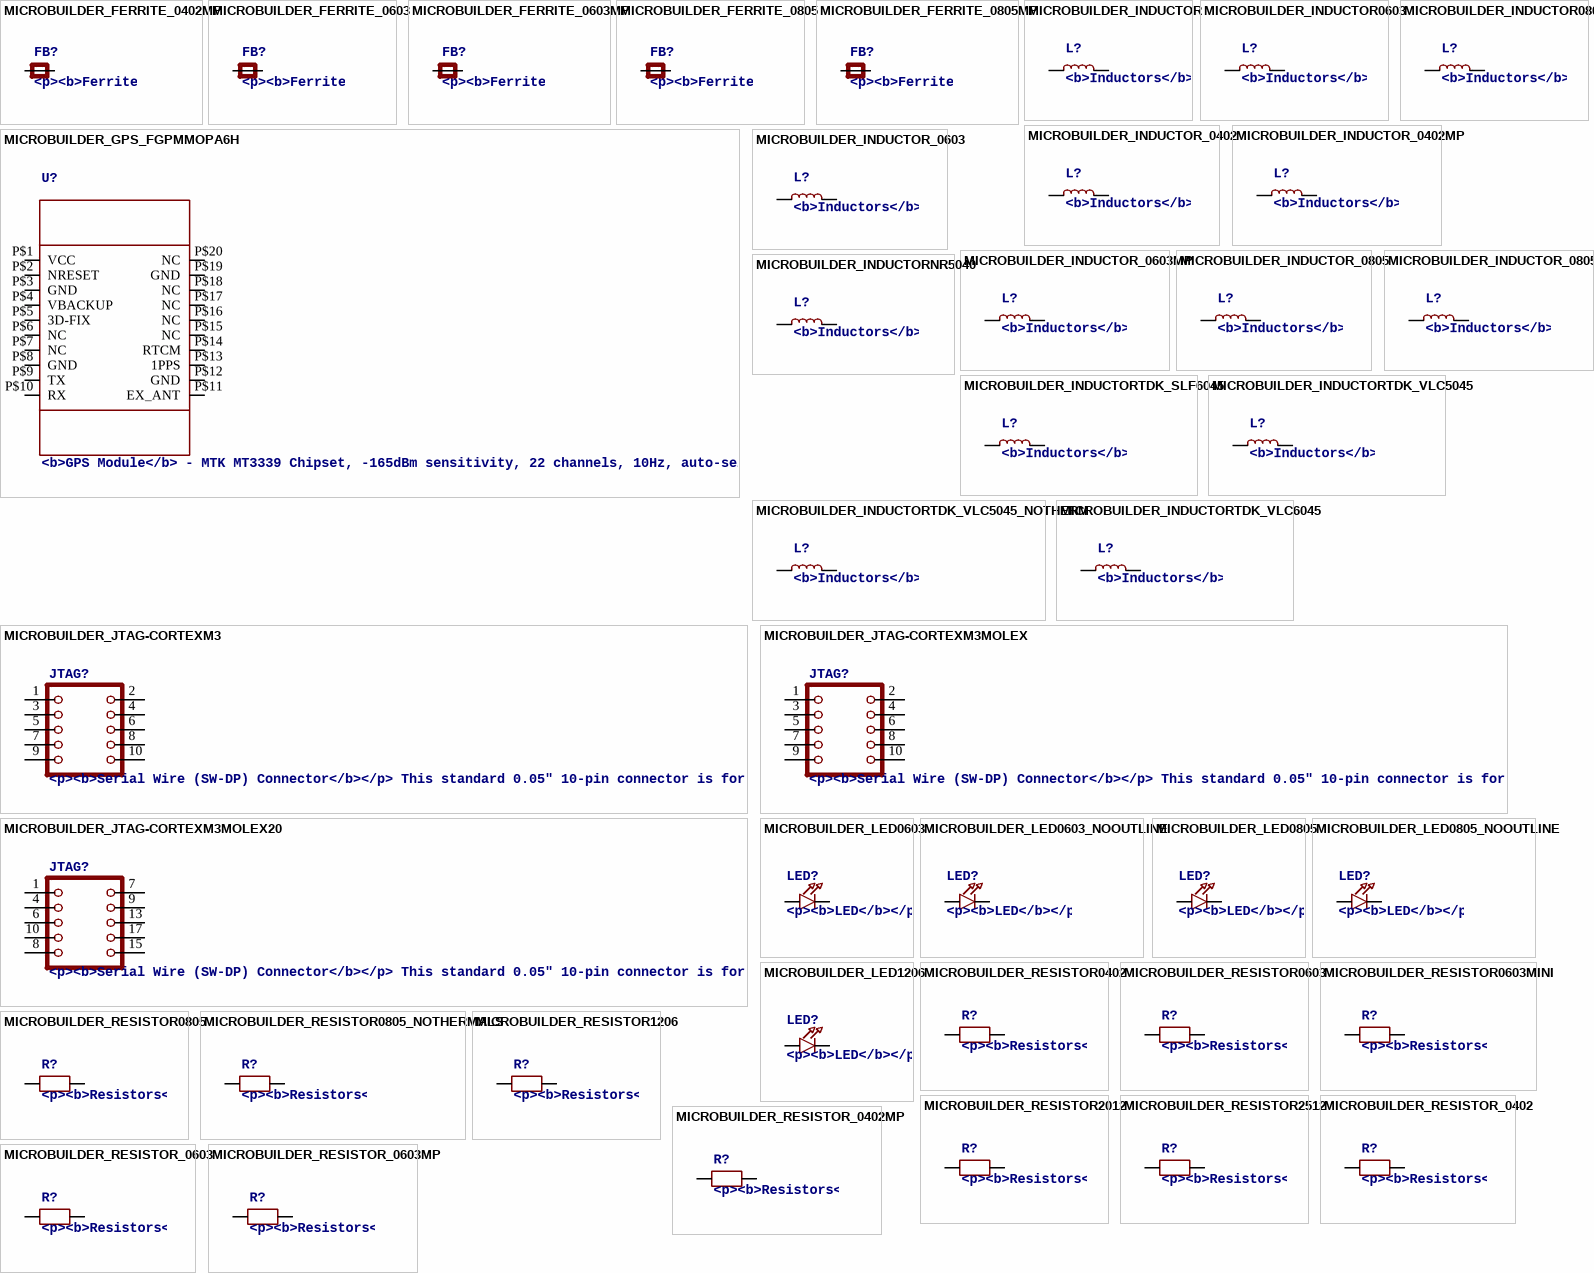
[diagram p2: symbols MICROBUILDER_FERRITE_0402MP to MICROBUILDER_RESISTOR_0603MP]

## MICROBUILDER_FERRITE_0402MP
designator FB?, comment <p><b>Ferrite Bead</b></p> / <p>0603</p> / <ul> / <li>MMZ1608B121C - 120 Ohm @ 100MHz, 600mA, 0.15 Ohm DC Resistance - Digikey: 445-2164-1-ND</li> / <li>BK1608HW121-T - 120 Ohm, 600mA Ferrite Chip - Digikey: 587-1876-2-ND</li> / </ul> / <p>0805</p> / <ul> / <li>HZ0805B272R-10 - 2.7K Ohm @ 100MHz, 200mA, 0.8 Ohm DC Resistance - Digikey: 240-2504-1-ND (see also Murata BLM21BD272SN1L)</li> / <li>MMZ2012Y152B - 1.5K Ohm @ 100MHz, 500mA, 0.4 Ohm DC Resistance - Digikey: 445-1560-1-ND - Mainly for high frequency (80-400MHz)</li> / <li>MMZ2012R102A - 1K Ohm @ 100MHz, 500mA, 0.3 Ohm DC Resistance - Digikey: 445-1555-2-ND - More general purpose (10-200MHz)</li> / </ul>
footprint MICROBUILDER__0402MP
pins: 1 P$1, 2 P$2

## MICROBUILDER_FERRITE_0603
designator FB?, comment <p><b>Ferrite Bead</b></p> / <p>0603</p> / <ul> / <li>MMZ1608B121C - 120 Ohm @ 100MHz, 600mA, 0.15 Ohm DC Resistance - Digikey: 445-2164-1-ND</li> / <li>BK1608HW121-T - 120 Ohm, 600mA Ferrite Chip - Digikey: 587-1876-2-ND</li> / </ul> / <p>0805</p> / <ul> / <li>HZ0805B272R-10 - 2.7K Ohm @ 100MHz, 200mA, 0.8 Ohm DC Resistance - Digikey: 240-2504-1-ND (see also Murata BLM21BD272SN1L)</li> / <li>MMZ2012Y152B - 1.5K Ohm @ 100MHz, 500mA, 0.4 Ohm DC Resistance - Digikey: 445-1560-1-ND - Mainly for high frequency (80-400MHz)</li> / <li>MMZ2012R102A - 1K Ohm @ 100MHz, 500mA, 0.3 Ohm DC Resistance - Digikey: 445-1555-2-ND - More general purpose (10-200MHz)</li> / </ul>
footprint MICROBUILDER__0603
pins: 1 P$1, 2 P$2

## MICROBUILDER_FERRITE_0603MP
designator FB?, comment <p><b>Ferrite Bead</b></p> / <p>0603</p> / <ul> / <li>MMZ1608B121C - 120 Ohm @ 100MHz, 600mA, 0.15 Ohm DC Resistance - Digikey: 445-2164-1-ND</li> / <li>BK1608HW121-T - 120 Ohm, 600mA Ferrite Chip - Digikey: 587-1876-2-ND</li> / </ul> / <p>0805</p> / <ul> / <li>HZ0805B272R-10 - 2.7K Ohm @ 100MHz, 200mA, 0.8 Ohm DC Resistance - Digikey: 240-2504-1-ND (see also Murata BLM21BD272SN1L)</li> / <li>MMZ2012Y152B - 1.5K Ohm @ 100MHz, 500mA, 0.4 Ohm DC Resistance - Digikey: 445-1560-1-ND - Mainly for high frequency (80-400MHz)</li> / <li>MMZ2012R102A - 1K Ohm @ 100MHz, 500mA, 0.3 Ohm DC Resistance - Digikey: 445-1555-2-ND - More general purpose (10-200MHz)</li> / </ul>
footprint MICROBUILDER__0603MP
pins: 1 P$1, 2 P$2

## MICROBUILDER_FERRITE_0805
designator FB?, comment <p><b>Ferrite Bead</b></p> / <p>0603</p> / <ul> / <li>MMZ1608B121C - 120 Ohm @ 100MHz, 600mA, 0.15 Ohm DC Resistance - Digikey: 445-2164-1-ND</li> / <li>BK1608HW121-T - 120 Ohm, 600mA Ferrite Chip - Digikey: 587-1876-2-ND</li> / </ul> / <p>0805</p> / <ul> / <li>HZ0805B272R-10 - 2.7K Ohm @ 100MHz, 200mA, 0.8 Ohm DC Resistance - Digikey: 240-2504-1-ND (see also Murata BLM21BD272SN1L)</li> / <li>MMZ2012Y152B - 1.5K Ohm @ 100MHz, 500mA, 0.4 Ohm DC Resistance - Digikey: 445-1560-1-ND - Mainly for high frequency (80-400MHz)</li> / <li>MMZ2012R102A - 1K Ohm @ 100MHz, 500mA, 0.3 Ohm DC Resistance - Digikey: 445-1555-2-ND - More general purpose (10-200MHz)</li> / </ul>
footprint MICROBUILDER__0805
pins: 1 P$1, 2 P$2

## MICROBUILDER_FERRITE_0805MP
designator FB?, comment <p><b>Ferrite Bead</b></p> / <p>0603</p> / <ul> / <li>MMZ1608B121C - 120 Ohm @ 100MHz, 600mA, 0.15 Ohm DC Resistance - Digikey: 445-2164-1-ND</li> / <li>BK1608HW121-T - 120 Ohm, 600mA Ferrite Chip - Digikey: 587-1876-2-ND</li> / </ul> / <p>0805</p> / <ul> / <li>HZ0805B272R-10 - 2.7K Ohm @ 100MHz, 200mA, 0.8 Ohm DC Resistance - Digikey: 240-2504-1-ND (see also Murata BLM21BD272SN1L)</li> / <li>MMZ2012Y152B - 1.5K Ohm @ 100MHz, 500mA, 0.4 Ohm DC Resistance - Digikey: 445-1560-1-ND - Mainly for high frequency (80-400MHz)</li> / <li>MMZ2012R102A - 1K Ohm @ 100MHz, 500mA, 0.3 Ohm DC Resistance - Digikey: 445-1555-2-ND - More general purpose (10-200MHz)</li> / </ul>
footprint MICROBUILDER__0805MP
pins: 1 P$1, 2 P$2

## MICROBUILDER_GPS_FGPMMOPA6H
designator U?, comment <b>GPS Module</b> - MTK MT3339 Chipset, -165dBm sensitivity, 22 channels, 10Hz, auto-select external antenna options
footprint MICROBUILDER_FGPMMOPA6H
pins: P$1 VCC, P$2 NRESET, P$3 GND, P$4 VBACKUP, P$5 3D-FIX, P$6 NC, P$7 NC, P$8 GND, P$9 TX, P$10 RX, P$11 EX_ANT, P$12 GND, P$13 1PPS, P$14 RTCM, P$15 NC, P$16 NC, P$17 NC, P$18 NC, P$19 GND, P$20 NC

## MICROBUILDER_INDUCTOR
designator L?, comment <b>Inductors</b> / <p>0603:</p> / <ul> / <li>10nH Ceramic Inductor - microwire antenna/RF (Digikey: 712-1434-2-ND)</li> / </ul> / <p>0805:</p> / <ul> / <li>560nH Ceramic Inductor - RF (Digikey: 553-1047-1-ND)</li> / <li>270nH Ceramic Inductor - Q = 40@250MHz, +-5%, 1 Ohm DC Resistance (Digikey: 535-10506-2-ND)</li> / </ul> / <p>1007 (2518 Metric) SMT:</p> / <ul> / <li>10µH 10% 250mOhm 820mA 1007 Inductor (Digikey: 587-2189-1-ND)</li> / <li>22µH 10% 500mOhm 580mA 1007 Inductor (Digikey: 587-2190-1-ND)</li> / <li>47µH 10% 950mOhm 420mA 1007 Inductor (Digikey: 587-2191-1-ND)</li> / <li>47µH 5% 100mOhm 1A 1008 Inductor (Digikey: 732-1816-1-ND)</li> / </ul> / <p>5.0x5.0mm (Taiyo Yuden NR5040 Series)</p> / <ul> / <li>6.8µH 20% 2.3A 64mOhm Inductor (Digikey: 587-2374-2-ND)</li> / </ul> / <p>5.0x5.0mm (TDK VLC5045 Series)</p> / <ul> / <li>4.7µH 20% 3.3A 34mOhm Inductor (Digikey: 445-6526-1-ND)</li> / <li>6.8µH 20% 2.7A 46mOhm Inductor (Digikey: 445-6527-1-ND)</li> / </ul> / <p>6.0x6.0mm (TDK VLC6045 Series)</p> / <ul> / <li>4.7µH 20% 3.8A 27mOhm Inductor (Digikey: 445-6538-2-ND)</li> / <li>6.8µH 20% 3A 41mOhm Inductor (Digikey: 445-6540-1-ND)</li> / <li>6.2µH 30% 2.2A 45mOhm Inductor (Digikey: SRR5028-6R2YCT-ND) - Not TDK VLC6045 but footprint should match</li> / </ul> / <p>6.0x6.0mm (TDK SLF6045 Series)</p> / <ul> / <li>6.8uH 30% 2A 33mOhm Inductor (Digikey: 445-4572-1-ND, Mouser: 810-SLF645T6R8N2R0PF)</li> / </ul>
footprint MICROBUILDER_INDUCTOR_1007
pins: P$1 1, P$2 2

## MICROBUILDER_INDUCTOR0603
designator L?, comment <b>Inductors</b> / <p>0603:</p> / <ul> / <li>10nH Ceramic Inductor - microwire antenna/RF (Digikey: 712-1434-2-ND)</li> / </ul> / <p>0805:</p> / <ul> / <li>560nH Ceramic Inductor - RF (Digikey: 553-1047-1-ND)</li> / <li>270nH Ceramic Inductor - Q = 40@250MHz, +-5%, 1 Ohm DC Resistance (Digikey: 535-10506-2-ND)</li> / </ul> / <p>1007 (2518 Metric) SMT:</p> / <ul> / <li>10µH 10% 250mOhm 820mA 1007 Inductor (Digikey: 587-2189-1-ND)</li> / <li>22µH 10% 500mOhm 580mA 1007 Inductor (Digikey: 587-2190-1-ND)</li> / <li>47µH 10% 950mOhm 420mA 1007 Inductor (Digikey: 587-2191-1-ND)</li> / <li>47µH 5% 100mOhm 1A 1008 Inductor (Digikey: 732-1816-1-ND)</li> / </ul> / <p>5.0x5.0mm (Taiyo Yuden NR5040 Series)</p> / <ul> / <li>6.8µH 20% 2.3A 64mOhm Inductor (Digikey: 587-2374-2-ND)</li> / </ul> / <p>5.0x5.0mm (TDK VLC5045 Series)</p> / <ul> / <li>4.7µH 20% 3.3A 34mOhm Inductor (Digikey: 445-6526-1-ND)</li> / <li>6.8µH 20% 2.7A 46mOhm Inductor (Digikey: 445-6527-1-ND)</li> / </ul> / <p>6.0x6.0mm (TDK VLC6045 Series)</p> / <ul> / <li>4.7µH 20% 3.8A 27mOhm Inductor (Digikey: 445-6538-2-ND)</li> / <li>6.8µH 20% 3A 41mOhm Inductor (Digikey: 445-6540-1-ND)</li> / <li>6.2µH 30% 2.2A 45mOhm Inductor (Digikey: SRR5028-6R2YCT-ND) - Not TDK VLC6045 but footprint should match</li> / </ul> / <p>6.0x6.0mm (TDK SLF6045 Series)</p> / <ul> / <li>6.8uH 30% 2A 33mOhm Inductor (Digikey: 445-4572-1-ND, Mouser: 810-SLF645T6R8N2R0PF)</li> / </ul>
footprint MICROBUILDER_0603
pins: 1, 2

## MICROBUILDER_INDUCTOR0805
designator L?, comment <b>Inductors</b> / <p>0603:</p> / <ul> / <li>10nH Ceramic Inductor - microwire antenna/RF (Digikey: 712-1434-2-ND)</li> / </ul> / <p>0805:</p> / <ul> / <li>560nH Ceramic Inductor - RF (Digikey: 553-1047-1-ND)</li> / <li>270nH Ceramic Inductor - Q = 40@250MHz, +-5%, 1 Ohm DC Resistance (Digikey: 535-10506-2-ND)</li> / </ul> / <p>1007 (2518 Metric) SMT:</p> / <ul> / <li>10µH 10% 250mOhm 820mA 1007 Inductor (Digikey: 587-2189-1-ND)</li> / <li>22µH 10% 500mOhm 580mA 1007 Inductor (Digikey: 587-2190-1-ND)</li> / <li>47µH 10% 950mOhm 420mA 1007 Inductor (Digikey: 587-2191-1-ND)</li> / <li>47µH 5% 100mOhm 1A 1008 Inductor (Digikey: 732-1816-1-ND)</li> / </ul> / <p>5.0x5.0mm (Taiyo Yuden NR5040 Series)</p> / <ul> / <li>6.8µH 20% 2.3A 64mOhm Inductor (Digikey: 587-2374-2-ND)</li> / </ul> / <p>5.0x5.0mm (TDK VLC5045 Series)</p> / <ul> / <li>4.7µH 20% 3.3A 34mOhm Inductor (Digikey: 445-6526-1-ND)</li> / <li>6.8µH 20% 2.7A 46mOhm Inductor (Digikey: 445-6527-1-ND)</li> / </ul> / <p>6.0x6.0mm (TDK VLC6045 Series)</p> / <ul> / <li>4.7µH 20% 3.8A 27mOhm Inductor (Digikey: 445-6538-2-ND)</li> / <li>6.8µH 20% 3A 41mOhm Inductor (Digikey: 445-6540-1-ND)</li> / <li>6.2µH 30% 2.2A 45mOhm Inductor (Digikey: SRR5028-6R2YCT-ND) - Not TDK VLC6045 but footprint should match</li> / </ul> / <p>6.0x6.0mm (TDK SLF6045 Series)</p> / <ul> / <li>6.8uH 30% 2A 33mOhm Inductor (Digikey: 445-4572-1-ND, Mouser: 810-SLF645T6R8N2R0PF)</li> / </ul>
footprint MICROBUILDER_0805
pins: 1, 2

## MICROBUILDER_INDUCTOR_0402
designator L?, comment <b>Inductors</b> / <p>0603:</p> / <ul> / <li>10nH Ceramic Inductor - microwire antenna/RF (Digikey: 712-1434-2-ND)</li> / </ul> / <p>0805:</p> / <ul> / <li>560nH Ceramic Inductor - RF (Digikey: 553-1047-1-ND)</li> / <li>270nH Ceramic Inductor - Q = 40@250MHz, +-5%, 1 Ohm DC Resistance (Digikey: 535-10506-2-ND)</li> / </ul> / <p>1007 (2518 Metric) SMT:</p> / <ul> / <li>10µH 10% 250mOhm 820mA 1007 Inductor (Digikey: 587-2189-1-ND)</li> / <li>22µH 10% 500mOhm 580mA 1007 Inductor (Digikey: 587-2190-1-ND)</li> / <li>47µH 10% 950mOhm 420mA 1007 Inductor (Digikey: 587-2191-1-ND)</li> / <li>47µH 5% 100mOhm 1A 1008 Inductor (Digikey: 732-1816-1-ND)</li> / </ul> / <p>5.0x5.0mm (Taiyo Yuden NR5040 Series)</p> / <ul> / <li>6.8µH 20% 2.3A 64mOhm Inductor (Digikey: 587-2374-2-ND)</li> / </ul> / <p>5.0x5.0mm (TDK VLC5045 Series)</p> / <ul> / <li>4.7µH 20% 3.3A 34mOhm Inductor (Digikey: 445-6526-1-ND)</li> / <li>6.8µH 20% 2.7A 46mOhm Inductor (Digikey: 445-6527-1-ND)</li> / </ul> / <p>6.0x6.0mm (TDK VLC6045 Series)</p> / <ul> / <li>4.7µH 20% 3.8A 27mOhm Inductor (Digikey: 445-6538-2-ND)</li> / <li>6.8µH 20% 3A 41mOhm Inductor (Digikey: 445-6540-1-ND)</li> / <li>6.2µH 30% 2.2A 45mOhm Inductor (Digikey: SRR5028-6R2YCT-ND) - Not TDK VLC6045 but footprint should match</li> / </ul> / <p>6.0x6.0mm (TDK SLF6045 Series)</p> / <ul> / <li>6.8uH 30% 2A 33mOhm Inductor (Digikey: 445-4572-1-ND, Mouser: 810-SLF645T6R8N2R0PF)</li> / </ul>
footprint MICROBUILDER__0402
pins: 1, 2

## MICROBUILDER_INDUCTOR_0402MP
designator L?, comment <b>Inductors</b> / <p>0603:</p> / <ul> / <li>10nH Ceramic Inductor - microwire antenna/RF (Digikey: 712-1434-2-ND)</li> / </ul> / <p>0805:</p> / <ul> / <li>560nH Ceramic Inductor - RF (Digikey: 553-1047-1-ND)</li> / <li>270nH Ceramic Inductor - Q = 40@250MHz, +-5%, 1 Ohm DC Resistance (Digikey: 535-10506-2-ND)</li> / </ul> / <p>1007 (2518 Metric) SMT:</p> / <ul> / <li>10µH 10% 250mOhm 820mA 1007 Inductor (Digikey: 587-2189-1-ND)</li> / <li>22µH 10% 500mOhm 580mA 1007 Inductor (Digikey: 587-2190-1-ND)</li> / <li>47µH 10% 950mOhm 420mA 1007 Inductor (Digikey: 587-2191-1-ND)</li> / <li>47µH 5% 100mOhm 1A 1008 Inductor (Digikey: 732-1816-1-ND)</li> / </ul> / <p>5.0x5.0mm (Taiyo Yuden NR5040 Series)</p> / <ul> / <li>6.8µH 20% 2.3A 64mOhm Inductor (Digikey: 587-2374-2-ND)</li> / </ul> / <p>5.0x5.0mm (TDK VLC5045 Series)</p> / <ul> / <li>4.7µH 20% 3.3A 34mOhm Inductor (Digikey: 445-6526-1-ND)</li> / <li>6.8µH 20% 2.7A 46mOhm Inductor (Digikey: 445-6527-1-ND)</li> / </ul> / <p>6.0x6.0mm (TDK VLC6045 Series)</p> / <ul> / <li>4.7µH 20% 3.8A 27mOhm Inductor (Digikey: 445-6538-2-ND)</li> / <li>6.8µH 20% 3A 41mOhm Inductor (Digikey: 445-6540-1-ND)</li> / <li>6.2µH 30% 2.2A 45mOhm Inductor (Digikey: SRR5028-6R2YCT-ND) - Not TDK VLC6045 but footprint should match</li> / </ul> / <p>6.0x6.0mm (TDK SLF6045 Series)</p> / <ul> / <li>6.8uH 30% 2A 33mOhm Inductor (Digikey: 445-4572-1-ND, Mouser: 810-SLF645T6R8N2R0PF)</li> / </ul>
footprint MICROBUILDER__0402MP
pins: 1, 2

## MICROBUILDER_INDUCTOR_0603
designator L?, comment <b>Inductors</b> / <p>0603:</p> / <ul> / <li>10nH Ceramic Inductor - microwire antenna/RF (Digikey: 712-1434-2-ND)</li> / </ul> / <p>0805:</p> / <ul> / <li>560nH Ceramic Inductor - RF (Digikey: 553-1047-1-ND)</li> / <li>270nH Ceramic Inductor - Q = 40@250MHz, +-5%, 1 Ohm DC Resistance (Digikey: 535-10506-2-ND)</li> / </ul> / <p>1007 (2518 Metric) SMT:</p> / <ul> / <li>10µH 10% 250mOhm 820mA 1007 Inductor (Digikey: 587-2189-1-ND)</li> / <li>22µH 10% 500mOhm 580mA 1007 Inductor (Digikey: 587-2190-1-ND)</li> / <li>47µH 10% 950mOhm 420mA 1007 Inductor (Digikey: 587-2191-1-ND)</li> / <li>47µH 5% 100mOhm 1A 1008 Inductor (Digikey: 732-1816-1-ND)</li> / </ul> / <p>5.0x5.0mm (Taiyo Yuden NR5040 Series)</p> / <ul> / <li>6.8µH 20% 2.3A 64mOhm Inductor (Digikey: 587-2374-2-ND)</li> / </ul> / <p>5.0x5.0mm (TDK VLC5045 Series)</p> / <ul> / <li>4.7µH 20% 3.3A 34mOhm Inductor (Digikey: 445-6526-1-ND)</li> / <li>6.8µH 20% 2.7A 46mOhm Inductor (Digikey: 445-6527-1-ND)</li> / </ul> / <p>6.0x6.0mm (TDK VLC6045 Series)</p> / <ul> / <li>4.7µH 20% 3.8A 27mOhm Inductor (Digikey: 445-6538-2-ND)</li> / <li>6.8µH 20% 3A 41mOhm Inductor (Digikey: 445-6540-1-ND)</li> / <li>6.2µH 30% 2.2A 45mOhm Inductor (Digikey: SRR5028-6R2YCT-ND) - Not TDK VLC6045 but footprint should match</li> / </ul> / <p>6.0x6.0mm (TDK SLF6045 Series)</p> / <ul> / <li>6.8uH 30% 2A 33mOhm Inductor (Digikey: 445-4572-1-ND, Mouser: 810-SLF645T6R8N2R0PF)</li> / </ul>
footprint MICROBUILDER__0603
pins: 1, 2